# Altium schematic symbol library SCH - SENSOR - VOLTAGE - Nisshinbo R3120Nxxx-TR-#E.Schlib: 1 symbol
Pins are listed as number, name and electrical type; pins without a type are passive.

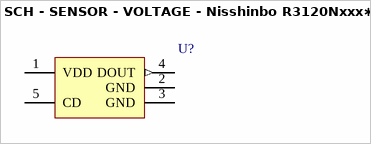
[diagram p0: symbol SCH - SENSOR - VOLTAGE - Nisshinbo R3120Nxxx∗-TR-#E]

## SCH - SENSOR - VOLTAGE - Nisshinbo R3120Nxxx∗-TR-#E
designator U?
footprint SOT23-5L_N (SOT23, 5-Leads, Body 2.9x1.6mm, Pitch 0.95mm, Lead Span 2.8mm, IPC Medium Density)
pins: 1 VDD (power), 2 GND (power), 3 GND (power), 4 DOUT (out), 5 CD